# Altium schematic symbol library passive.schlib: 3 symbols
Pins are listed as number, name and electrical type; pins without a type are passive.

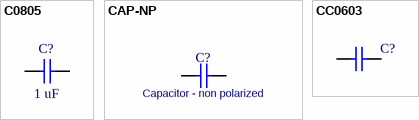
[diagram p0: symbols C0805 to CC0603]

## C0805
designator C?, comment 1 uF
0805 Capacitor 1 uF+/-10%-16V; ManufacturerPartNumber: GRM21BR71C105KA01; Manufacturer: Murata; Published: 17-Jul-2002; LatestRevisionDate: 19-Mar-2004; LatestRevisionNote: Silkscreen size reduced.; DatasheetDocument: Mar-2001; PackageDocument: Mar-2001; PackageReference: 0805; Publisher: Altium Limited; Code_JEITA: 0805; Code_IPC: 2012[0805]; ComponentLink1Description: Manufacturer Link; Value: 1 uF
simulation model CAP (Capacitor)
signal-integrity model C0805
footprint CAPC2012N (Chip Capacitor, Body 2.0x1.3mm, IPC Medium Density)
pins: 1, 2

## CAP-NP
designator C?, comment Capacitor - non polarized
Non-polarised capacitor
pins: 1, 2

## CC0603
designator C?
0603 Capacitor; Revision: Author: Iurii Bell. Altium 19. Revision 1.0.0
simulation model CAP (Capacitor)
signal-integrity model Cap
footprint CAPC1608N (Chip Capacitor, Body 1.6x0.8mm, IPC Medium Density)
pins: 1, 2